# Altium schematic symbol library Transistor_Schlib.SchLib: 14 symbols
Pins are listed as number, name and electrical type; pins without a type are passive.

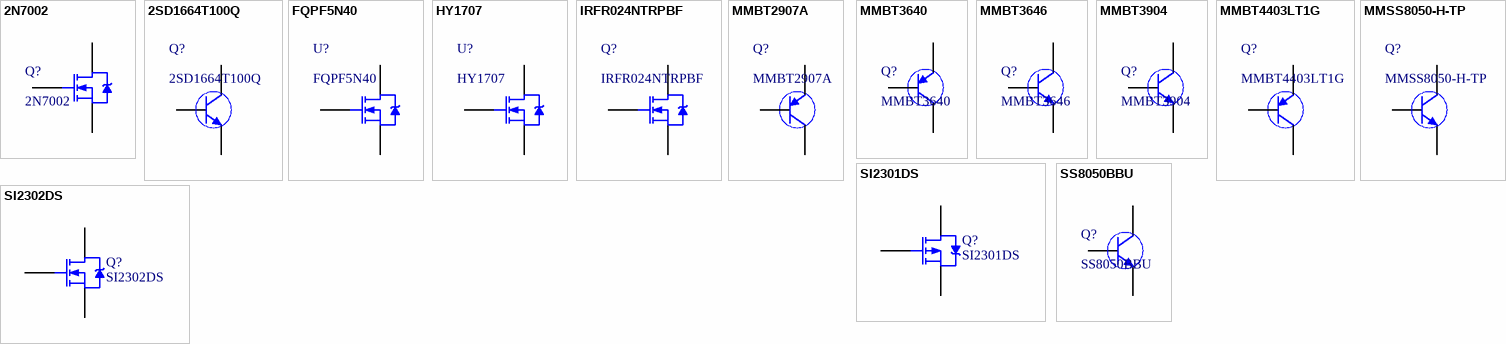
[diagram p0: symbols 2N7002 to SS8050BBU]

## 2N7002
designator Q?
MOSFET N-CHANNEL 60V 115mA, SOT-23; 單價: 9.28; 製造商: Fairchild Semiconductor; 代理商: mouser; 參考網站: http://www.mouser.tw/ProductDetail/Fairchild-Semiconductor/2N7002/?qs=sGAEpiMZZMsX0CFs5rpLHgHc1yUB5taD; 資料手冊: http://www.mouser.com/ds/2/149/2N7002-8405.pdf
footprint SMD SOT-23 (SOT23, 3-Leads, Body)
pins: 1 G, 2 S, 3 D

## 2SD1664T100Q
designator Q?
雙極結晶體管 - BJT NPN 32V 1A, Type SOT-89; 製造商: ROHM Semiconductor; 代理商: mouser; 單價: 16.41; 資料手冊: http://www.mouser.com/ds/2/348/2sd1664-595795.pdf; 參考網站: http://www.mouser.tw/ProductDetail/ROHM-Semiconductor/2SD1664T100Q/?qs=sGAEpiMZZMshyDBzk1%2fWi699iOF%252bvXIMOfqWBYL2beQ%3d
footprint SMD SOT-89 (SMD)
pins: 1 B, 2 C, 3 E

## FQPF5N40
designator U?
MOSFET 400V N-Channel QFET, TO-220F; 製造商: Fairchild Semiconductor; 單價: 39.25; 代理商: mouser; 資料手冊: http://www.mouser.com/ds/2/149/FQPF5N40-110823.pdf; 參考網站: http://www.mouser.tw/ProductDetail/Fairchild-Semiconductor/FQPF5N40/?qs=sGAEpiMZZMshyDBzk1%2fWi6u8DDnmpUwtQRNCh%252blDvzo%3d
footprint TO-220F
pins: 1 G, 2 D, 3 S

## HY1707
designator U?
MOSFET 700V /80A N-Channel MOSFET, TO-220; 製造商: Fairchild Semiconductor; 單價: 39.25; 資料手冊: http://www.nerdswarehouse.com.au/FILES/TRAN-MOSFETN-HY1707.PDF; 參考網站: *; 代理商: *
footprint TO-220
pins: 1 G, 2 D, 3 S

## IRFR024NTRPBF
designator Q?
MOSFET N-MOSFT 55V 16A 75mOhm 13.3nC, TO-252; 單價: 27.47; 製造商: International Rectifier; 代理商: mouser; 參考網站: http://www.mouser.tw/ProductDetail/International-Rectifier/IRFR024NTRPBF/?qs=sGAEpiMZZMshyDBzk1%2fWi5%252bqVgN3%252bWS8AEq89Uv1xNg%3d; 資料手冊: http://www.irf.com/product-info/datasheets/data/irfr024n.pdf
footprint TO-252
pins: 1 G, 2 D, 3 S

## MMBT2907A
designator Q?
雙極結晶體管 - BJT PNP SOT-23 GEN PUR; 製造商: Fairchild Semiconductor; 單價: 6.42; 代理商: mouser; 資料手冊: http://www.mouser.com/ds/2/149/MMBT2907A-191400.pdf; 參考網站: http://www.mouser.tw/ProductDetail/Fairchild-Semiconductor/MMBT2907A/?qs=sGAEpiMZZMutXGli8Ay4kHKRdIvtrnJvpaHHB7JMGOw%3d
footprint SMD SOT-23 (SOT23, 3-Leads, Body)
pins: 1 B, 2 E, 3 C

## MMBT3640
designator Q?
雙極結晶體管 - BJT Switching Transistor PNP, SOT-23; 製造商: Fairchild Semiconductor; 單價: 20.34; 代理商: mouser; 參考網站: http://www.mouser.tw/ProductDetail/Fairchild-Semiconductor/MMBT3640/?qs=sGAEpiMZZMshyDBzk1%2fWi8oN7VHZ91Okxgzu5kNXNRg%3d; 資料手冊: http://www.mouser.com/ds/2/149/MMBT3640-889776.pdf
footprint SMD SOT-23 (SOT23, 3-Leads, Body)
pins: 1 B, 2 E, 3 C

## MMBT3646
designator Q?
雙極結晶體管 - BJT Switching Transistor NPN, SOT-23; 單價: 6.78; 製造商: Fairchild Semiconductor; 代理商: mouser; 參考網站: http://www.mouser.tw/ProductDetail/Fairchild-Semiconductor/MMBT3646/?qs=%2fha2pyFadujtb%2f11Y8yYcajvy3arEvi3QxZg3D2cewE%3d; 資料手冊: http://www.mouser.com/ds/2/149/MMBT3646-889835.pdf
footprint SMD SOT-23 (SOT23, 3-Leads, Body)
pins: 1 B, 2 E, 3 C

## MMBT3904
designator Q?
雙極結晶體管 - BJT SOT-23 NPN GEN PUR; 製造商: Fairchild Semiconductor; 單價: 5; 代理商: mouser; 資料手冊: http://www.nxp.com/documents/data_sheet/MMBT3904.pdf; 參考網站: http://www.mouser.tw/ProductDetail/Fairchild-Semiconductor/MMBT3904/?qs=sGAEpiMZZMvAvBNgSS9Lqpg%252bOuqhHUdo
footprint SMD SOT-23 (SOT23, 3-Leads, Body)
pins: 1 B, 2 E, 3 C

## MMBT4403LT1G
designator Q?
雙極結晶體管 - BJT PNP 600mA 40V SOT-23; 製造商: ON Semiconductor; 單價: 3.57; 代理商: mouser; 資料手冊: http://www.mouser.com/ds/2/308/MMBT4403LT1-D-101652.pdf; 參考網站: http://www.mouser.tw/ProductDetail/ON-Semiconductor/MMBT4403LT1G/?qs=sGAEpiMZZMshyDBzk1%2fWi%2fPUgtclNldl6gi8v4u6LSM%3d
footprint SMD SOT-23 (SOT23, 3-Leads, Body)
pins: 1 B, 2 E, 3 C

## MMSS8050-H-TP
designator Q?
雙極結晶體管 - BJT NPN 625mW, 25V, 1500mA, Type SOT-23; 製造商: Micro Commercial Components (MCC); 代理商: mouser; 單價: 3.57; 資料手冊: http://www.mouser.com/ds/2/258/MMSS8050-255048.pdf; 參考網站: http://www.mouser.tw/ProductDetail/Micro-Commercial-Components-MCC/MMSS8050-H-TP/?qs=sGAEpiMZZMvplms98TlKYxWN4uhlXivEdtknTRVx84M%3d
footprint SMD SOT-23 (SOT23, 3-Leads, Body)
pins: 1 B, 2 E, 3 C

## SI2301DS
designator Q?
MOSFET P-channel 20V 2.3A 1.25W, SOT-23; 製造商: Vishay Semiconductors; 單價: 19.27; 代理商: mouser; 參考網站: http://www.mouser.tw/ProductDetail/Vishay/SI2301DS-T1/?qs=%2fha2pyFadug6DHp7RgHBD6dX4or8KbBMxh%2fFolWiSRk%3d; 資料手冊: http://www.mouser.com/ds/2/427/70627-280017.pdf
footprint SMD SOT-23 (SOT23, 3-Leads, Body)
pins: 1 G, 2 S, 3 D

## SI2302DS
designator Q?
MOSFET N-CH 20V 2.5A , SOT-23; 製造商: NXP Semiconductors; 單價: 14; 代理商: digikey; 參考網站: http://www.digikey.tw/product-detail/zh/nxp-semiconductors/SI2302DS,215/568-5956-2-ND/1158304; 資料手冊: http://www.nxp.com/documents/data_sheet/SI2302DS.pdf
footprint SMD SOT-23 (SOT23, 3-Leads, Body)
pins: 1 G, 2 S, 3 D

## SS8050BBU
designator Q?
雙極結晶體管 - BJT NPN/40V/1.5A, TO-92; 單價: 8.21; 製造商: Fairchild Semiconductor; 代理商: mouser; 參考網站: http://www.mouser.tw/ProductDetail/Fairchild-Semiconductor/SS8050BBU/?qs=sGAEpiMZZMvAvBNgSS9LqmoD%2fR4sQBTB; 資料手冊: http://electronics.se-ed.com/magic/s8050.pdf
footprint TO-92
pins: 1 E, 2 B, 3 C